# Altium footprint library THT-Passive.PcbLib: 16 footprints
Each footprint in its own frame and in the unit in brackets; x right, y up, seen from the top. Pads: shape width x height; smd on the part's side, far side on the other; paste and mask are expansions set on the pad; w line width, h text height; cw(c..) or ccw(c..) is an arc to the next point about the centre after c.
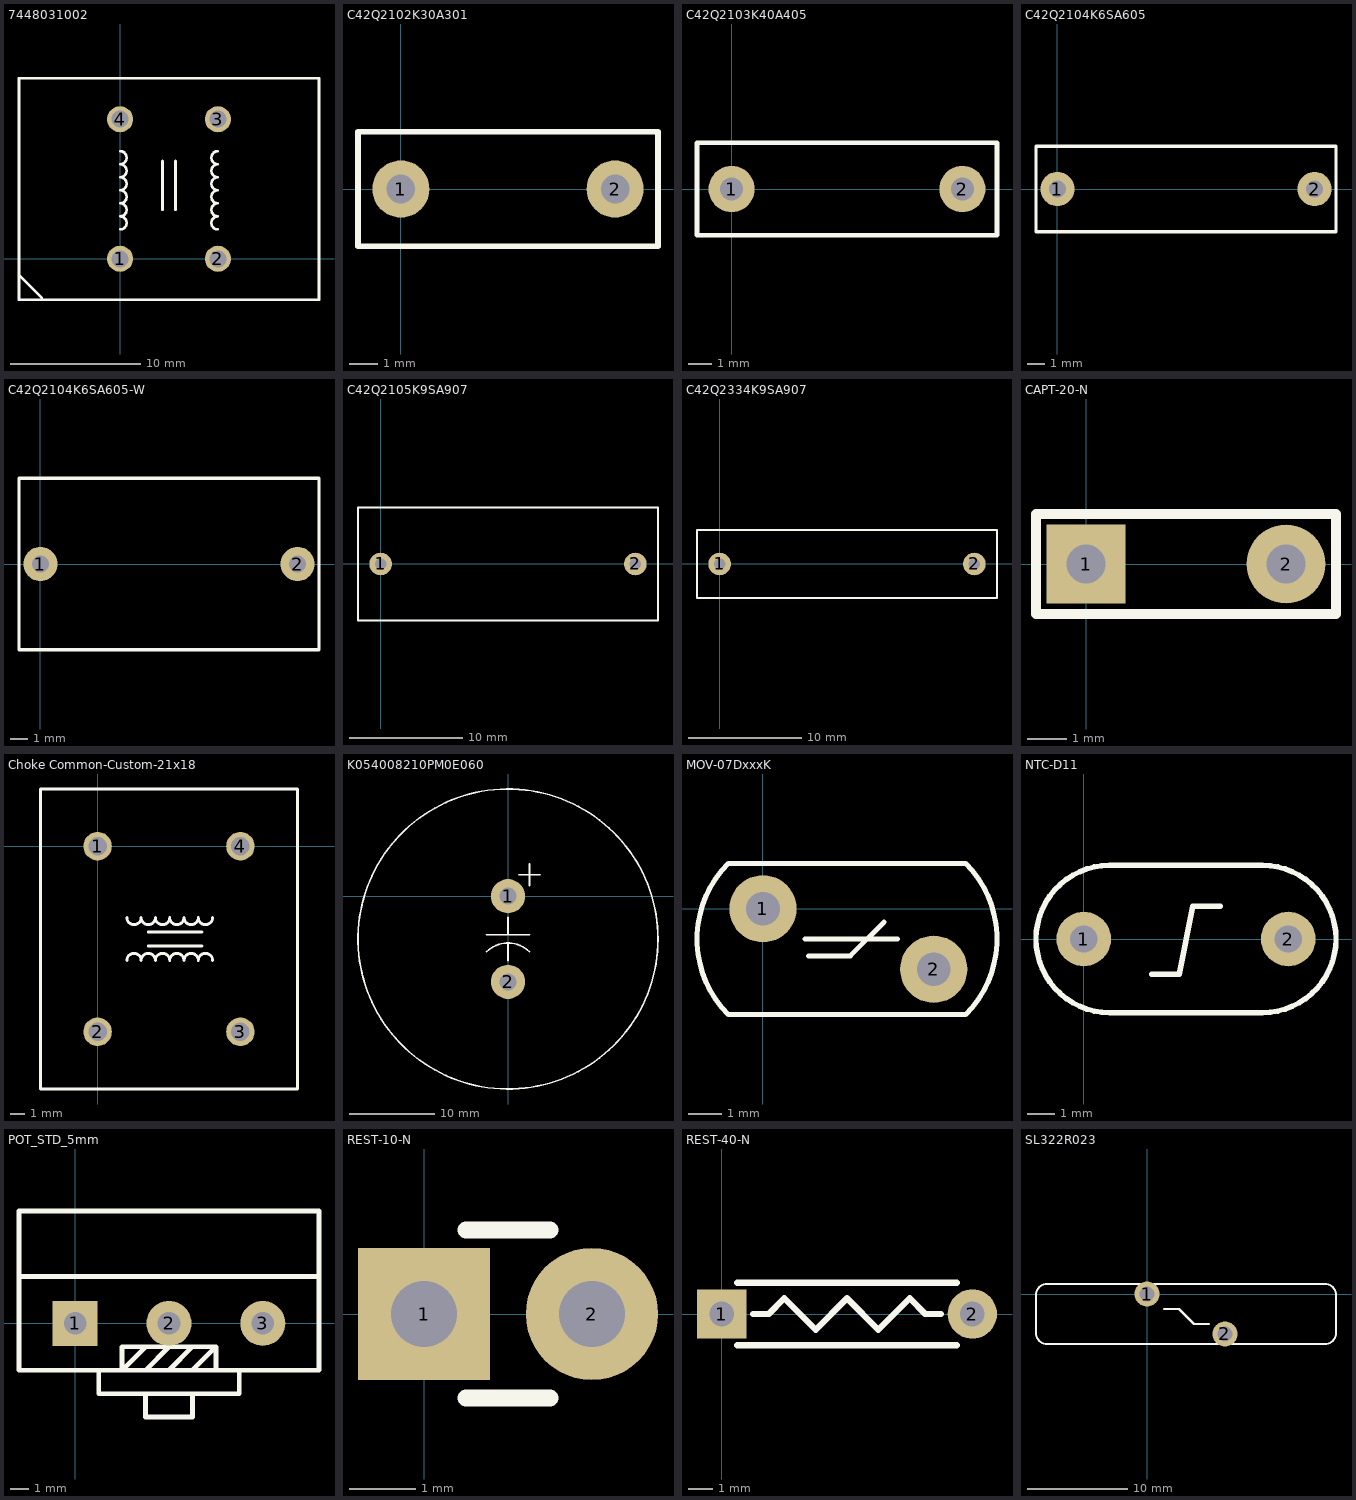
[diagram p0: the footprints below, top view; thin cyan lines are the x and y axes]

## 7448031002 [mm]
pads (4):
  round 2 hole 1.3: 1(0,0) 2(7.5,0) 3(7.5,10.7) 4(0,10.7)
Top Overlay:
  lines w0.2: -7.75,-1.25 -6,-3 ; 0,2.25 ccw(c0,2.75) 0,3.25 ccw(c0,3.75) 0,4.25 ccw(c0,4.75) 0,5.25 ccw(c0,5.75) 0,6.25 ccw(c0,6.75) 0,7.25 ccw(c0,7.75) 0,8.25 ; 3.25,3.75 3.25,7.5 ; 4.25,3.75 4.25,7.5 ; 7.5,2.25 cw(c7.5,2.75) 7.5,3.25 cw(c7.5,3.75) 7.5,4.25 cw(c7.5,4.75) 7.5,5.25 cw(c7.5,5.75) 7.5,6.25 cw(c7.5,6.75) 7.5,7.25 cw(c7.5,7.75) 7.5,8.25 ; -7.75,-3.15 -7.75,13.85 15.25,13.85 15.25,-3.15 -7.75,-3.15
3D body: height 25, standoff 0, extent -7.7,-3.1 15.2,13.8

## C42Q2102K30A301 [mm]
pads (2):
  round 2 hole 1: 1(0,0) 2(7.5,0)
Top Overlay:
  lines w0.2: -1.5,-2 9,-2 9,2 -1.5,2 -1.5,-2
3D body: height 9, standoff 0.1, extent -1.5,-2 9,2

## C42Q2103K40A405 [mm]
pads (2):
  round 2 hole 1: 1(0,0) 2(10,0)
Top Overlay:
  lines w0.2: -1.5,-2 11.5,-2 11.5,2 -1.5,2 -1.5,-2
3D body: height 11, standoff 0.1, extent -1.5,-2 11.5,2

## C42Q2104K6SA605 [mm]
pads (2):
  round 2 hole 1: 1(0,0) 2(15,0)
Top Overlay:
  lines w0.2: -1.25,-2.5 -1.25,2.5 16.25,2.5 16.25,-2.5 -1.25,-2.5
3D body: height 11, standoff 0.1, extent -1.25,-2.5 16.25,2.5

## C42Q2104K6SA605-W [mm]
pads (2):
  round 2 hole 1: 1(0,0) 2(15,0)
Top Overlay:
  lines w0.2: -1.25,-5 16.25,-5 16.25,5 -1.25,5 -1.25,-5
3D body: height 11, standoff 0.1, extent -1.25,-5 16.25,5

## C42Q2105K9SA907 [mm]
pads (2):
  round 2 hole 1: 1(0,0) 2(22.5,0)
Top Overlay:
  lines w0.2: -2,-5 -2,5 24.5,5 24.5,-5 -2,-5
3D body: height 18.5, standoff 0.1, extent -2,-5 24.5,5

## C42Q2334K9SA907 [mm]
pads (2):
  round 2 hole 1: 1(0,0) 2(22.5,0)
Top Overlay:
  lines w0.2: -2,-3 24.5,-3 24.5,3 -2,3 -2,-3
3D body: height 15, standoff 0.1, extent -2,-3 24.5,3

## CAPT-20-N [mm]
height 0.508
pads (2):
  rect 2x2 hole 1: 1(0,0)
  round 2 hole 1: 2(5.08,0)
Top Overlay:
  lines w0.254: -1.27,-1.27 6.35,-1.27 6.35,1.27 -1.27,1.27 -1.27,-1.27
3D body "User Library-Film Capacitor 7_2x2_5x6_5mm.step": height 6.51, standoff -2.49, extent -1.06,-1.23 6.14,1.27

## Choke Common-Custom-21x18 [mm]
height 20
pads (4):
  round 2 hole 1.3: 1(0,0) 2(0,-13) 3(10,-13) 4(10,0)
Top Overlay:
  lines w0.2: 2.05,-8.002 cw(c2.55,-8.002) 3.05,-8.002 cw(c3.55,-8.002) 4.05,-8.002 cw(c4.55,-8.002) 5.05,-8.002 cw(c5.55,-8.002) 6.05,-8.002 cw(c6.55,-8.002) 7.05,-8.002 cw(c7.55,-8.002) 8.05,-8.002 ; 2.05,-4.998 ccw(c2.55,-4.998) 3.05,-4.998 ccw(c3.55,-4.998) 4.05,-4.998 ccw(c4.55,-4.998) 5.05,-4.998 ccw(c5.55,-4.998) 6.05,-4.998 ccw(c6.55,-4.998) 7.05,-4.998 ccw(c7.55,-4.998) 8.05,-4.998 ; 3.55,-7 7.3,-7 ; 3.55,-6 7.3,-6 ; -4,-17 14,-17 14,4 -4,4 -4,-17

## K054008210PM0E060 [mm]
pads (2):
  round 4 hole 2: 1(0,0) 2(0,-10)
Top Overlay:
  circle w0.2: c0,-5 r17.5
  lines w0.2: -2.5,-6.5 cw(c0,-9) 2.5,-6.5 ; -2.5,-4.5 2.5,-4.5 ; 0,-7.5 0,-5.5 ; 0,-4.5 0,-2.5 ; 1.25,2.5 3.75,2.5 ; 2.5,1.25 2.5,3.75
3D body: height 60, standoff 0, extent -17.5,-22.492 17.5,12.493

## MOV-07DxxxK [mm]
height 10
pads (2):
  round 2 hole 1: 1(0,0) 2(5.08,-1.8)
Top Overlay:
  lines w0.15: 1.25,-0.9 4,-0.9 ; 1.35,-1.4 2.6,-1.4 3.6,-0.4 ; -1.03,-3.15 cw(c1.22,-0.9) -1.03,1.35 6.03,1.35 cw(c3.78,-0.9) 6.03,-3.15 -1.03,-3.15
3D body: height 10, standoff 3, extent -1,-3.1 6,1.3

## NTC-D11 [mm]
pads (2):
  round 2 hole 1: 1(0,0) 2(7.5,0)
Top Overlay:
  lines w0.2: 2.5,-1.3 3.5,-1.3 4,1.2 5,1.2 ; -1.75,0 ccw(c0.95,0) 0.95,-2.7 6.55,-2.7 ccw(c6.55,0) 9.25,0 ccw(c6.55,0) 6.55,2.7 0.95,2.7 ccw(c0.95,0) -1.75,0

## POT_STD_5mm [mm]
height 16.5
pads (3):
  rect 2.4x2.4 hole 1.2: 1(0,0)
  round 2.4 hole 1.2: 2(5,0) 3(10,0)
Top Overlay:
  lines w0.254: 1.25,-2.5 1.25,-3.75 8.75,-3.75 8.75,-2.5 ; 3.75,-3.75 3.75,-5 6.25,-5 6.25,-3.75 ; 3.75,-2.5 5,-1.25 ; 3.75,-1.25 2.5,-2.5 2.5,-1.25 7.5,-1.25 ; 5,-2.5 6.25,-1.25 ; 6.25,-2.5 7.5,-1.25 ; 7.5,-2.5 7.5,-1.25 ; -3,2.5 -3,6 13,6 13,2.5 ; -3,2.5 -3,-2.5 13,-2.5 13,2.5 ; -3,2.5 13,2.5
3D body "PotentiometerAssy.STEP": height 21, standoff -3.75, extent -3.05,-22 13.05,6

## REST-10-N [mm]
height 0.254
pads (2):
  rect 2x2 hole 1: 1(0,0)
  round 2 hole 1: 2(2.54,0)
Top Overlay:
  lines w0.254: 0.635,-1.27 1.905,-1.27 ; 0.635,1.27 1.905,1.27
3D body "Resistor(0_25)vertical.step": height 7.8, standoff -1.5, extent -1.077,-1.131 2.855,1.131

## REST-40-N [mm]
height 0.254
pads (2):
  rect 2x2 hole 1: 1(0,0)
  round 2 hole 1: 2(10.16,0)
Top Overlay:
  lines w0.254: 0.635,-1.27 9.525,-1.27 ; 0.635,1.27 9.525,1.27 ; 1.27,0 1.905,0 2.54,0.635 3.81,-0.635 5.08,0.635 6.35,-0.635 7.62,0.635 8.255,0 8.89,0
3D body "User Library-Res40-Axial 0_25W-1K.step": height 2.41, standoff -2, extent -0.3,-1.2 10.46,1.2

## SL322R023 [mm]
height 10
pads (2):
  round 2.5 hole 1.5: 1(0,0) 2(7.8,-4)
Top Overlay:
  lines w0.2: 1.7,-1.5 3.2,-1.5 4.7,-3 6.2,-3 ; -11.1,-3.9 ccw(c-10,-3.9) -10,-5 17.8,-5 ccw(c17.8,-3.9) 18.9,-3.9 18.9,-0.1 ccw(c17.8,-0.1) 17.8,1 -10,1 ccw(c-10,-0.1) -11.1,-0.1 -11.1,-3.9